# Altium footprint library Diodes_rus.PcbLib: 41 footprints (part 1 of 3)
Each footprint in its own frame and in the unit in brackets; x right, y up, seen from the top. Pads: shape width x height; smd on the part's side, far side on the other; paste and mask are expansions set on the pad; w line width, h text height; cw(c..) or ccw(c..) is an arc to the next point about the centre after c.
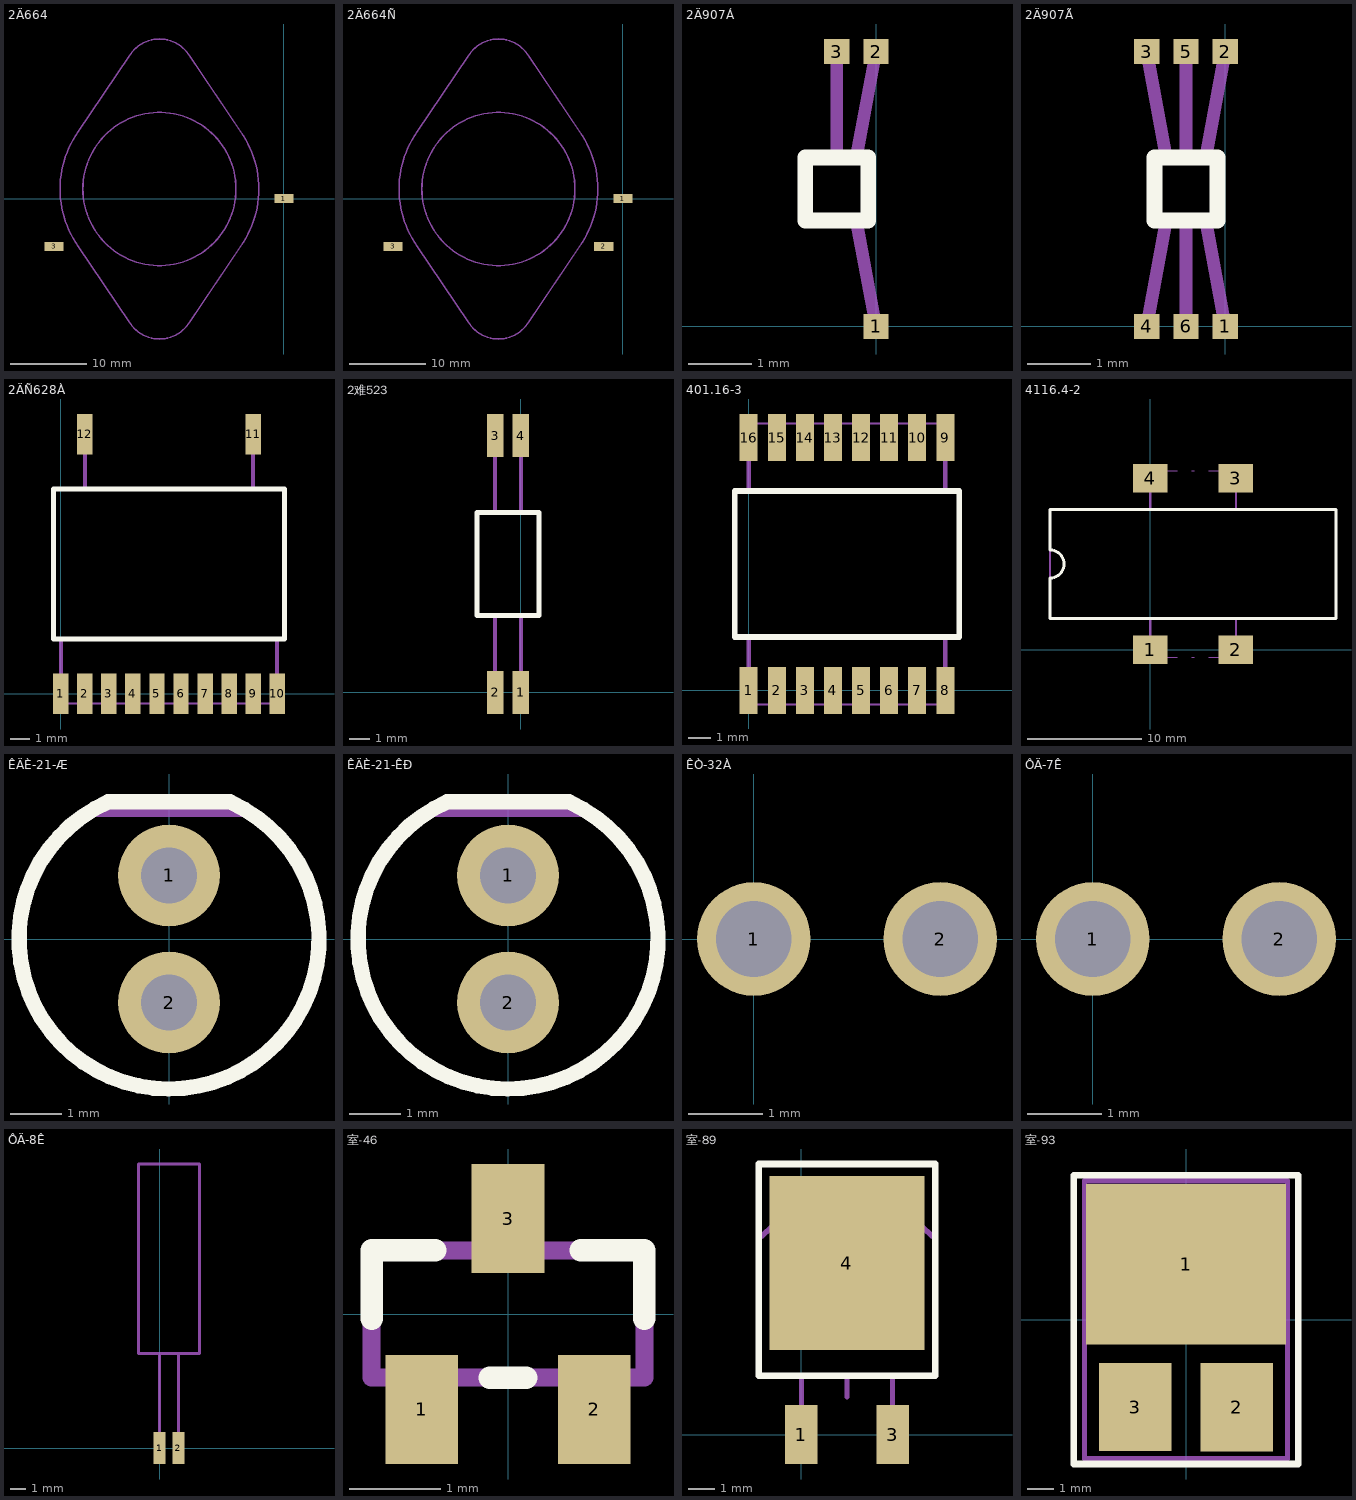
[diagram p0: the footprints below, top view; thin cyan lines are the x and y axes]

## 2Ä664 [mm]
height 19
pads (2):
  rect 2.5x1.2 smd: 1(0,0) 3(-30,-6.25)
Mechanical 1:
  circle w0.2: c-16.25,1.25 r10
  lines w0.2: -26.85,-6.25 cw(c-16.25,1.25) -26.85,8.75 -20.2,18.6 cw(c-16.25,16.25) -12.3,18.6 -5.65,8.75 cw(c-16.25,1.25) -5.65,-6.25 -12.3,-16.1 cw(c-16.25,-13.75) -20.2,-16.1 -26.85,-6.25
  text ".Designator" at -18.18,1.7 h1.5
  text "1" at -0.728,1.243 h1.5
  text "3" at -30.728,-5.007 h1.5

## 2Ä664Ñ [mm]
height 13
pads (3):
  rect 2.5x1.2 smd: 1(0,0) 2(-2.5,-6.25) 3(-30,-6.25)
Mechanical 1:
  circle w0.2: c-16.25,1.25 r10
  lines w0.2: -26.85,-6.25 cw(c-16.25,1.25) -26.85,8.75 -20.2,18.6 cw(c-16.25,16.25) -12.3,18.6 -5.65,8.75 cw(c-16.25,1.25) -5.65,-6.25 -12.3,-16.1 cw(c-16.25,-13.75) -20.2,-16.1 -26.85,-6.25
  text ".Designator" at -18.23,2.3 h1.5
  text "2" at -3.228,-5.007 h1.5
  text "3" at -30.728,-5.007 h1.5
  text "1" at -0.728,1.243 h1.5

## 2Ä907Á [mm]
height 0.7
pads (3):
  rect 0.4x0.4 smd: 1(0,0) 2(0,4.375) 3(-0.625,4.375)
Top Overlay:
  lines w0.25: -1.125,1.687 -1.125,2.688 -0.125,2.688 -0.125,1.687 -1.125,1.687
Mechanical 1:
  lines w0.2: -0.625,2.688 -0.625,4.375 ; -0.312,1.687 0,0 ; -0.312,2.688 0,4.375 ; -1.125,1.687 -1.125,2.688 -0.125,2.688 -0.125,1.687 -1.125,1.687
  text ".Designator" at 1.5,0.27 h1.5

## 2Ä907Ã [mm]
height 0.7
pads (6):
  rect 0.4x0.4 smd: 1(0,0) 2(0,4.375) 3(-1.25,4.375) 4(-1.25,0) 5(-0.625,4.375) 6(-0.625,0)
Top Overlay:
  lines w0.25: -1.125,1.687 -0.125,1.687 -0.125,2.688 -1.125,2.688 -1.125,1.687
Mechanical 1:
  lines w0.2: -1.25,0 -0.937,1.687 ; -1.25,4.375 -0.937,2.688 ; -0.625,0 -0.625,1.687 ; -0.625,2.688 -0.625,4.375 ; -0.312,1.687 0,0 ; -0.312,2.688 0,4.375 ; -1.125,1.687 -1.125,2.688 -0.125,2.688 -0.125,1.687 -1.125,1.687
  text ".Designator" at 1.5,-0.28 h1.5

## 2ÄÑ628À [mm]
height 2.5
pads (12):
  rect 0.8x2.1 smd: 1(0,0) 2(1.25,0) 3(2.5,0) 4(3.75,0) 5(5,0) 6(6.25,0) 7(7.5,0) 8(8.75,0) 9(10,0) 10(11.25,0) 11(10,13.5) 12(1.25,13.5)
Top Overlay:
  lines w0.25: -0.375,2.85 -0.375,10.65 11.625,10.65 11.625,2.85 -0.375,2.85
Mechanical 1:
  lines w0.1: 0,-0.5 4.75,-0.5 ; 5.375,-0.5 5.875,-0.5 ; 6.5,-0.5 11.25,-0.5
  lines w0.2: 0,-0.5 0,2.85 ; 1.25,10.65 1.25,14 ; 10,10.65 10,14 ; 11.25,-0.5 11.25,2.85 ; -0.375,2.85 -0.375,10.65 11.625,10.65 11.625,2.85 -0.375,2.85
  text ".Comment" at 3.05,5.65 h1.5
  text "1" at 0.45,3.45 h1.5
  text "12" at 0.75,9.2 h1.5
  text ".Designator" at 3.87,7.45 h1.5

## 2难523 [mm]
height 3
pads (4):
  rect 0.8x2.1 smd: 1(0,0) 2(-1.25,0) 3(-1.25,12.5) 4(0,12.5)
Top Overlay:
  lines w0.25: -2.125,3.75 -2.125,8.75 0.875,8.75 0.875,3.75 -2.125,3.75
Mechanical 1:
  lines w0.2: -1.25,-0.35 -1.25,3.75 ; -1.25,8.75 -1.25,12.85 ; 0,-0.35 0,3.75 ; 0,8.75 0,12.85 ; -2.125,3.75 -2.125,8.75 0.875,8.75 0.875,3.75 -2.125,3.75
  text "3" at -1.703,7.193 h1.5
  text "2" at -1.703,4.193 h1.5
  text "4" at -0.203,7.193 h1.5
  text "1" at 0.047,4.193 h1.5
  text ".Designator" at 2.4,3.07 h1.5

## 401.16-3 [mm]
height 2.5
pads (16):
  rect 0.8x2.1 smd: 1(0,0) 2(1.25,0) 3(2.5,0) 4(3.75,0) 5(5,0) 6(6.25,0) 7(7.5,0) 8(8.75,0) 9(8.75,11.25) 10(7.5,11.25) 11(6.25,11.25) 12(5,11.25) 13(3.75,11.25) 14(2.5,11.25) 15(1.25,11.25) 16(0,11.25)
Top Overlay:
  lines w0.25: -0.625,2.375 9.375,2.375 9.375,8.875 -0.625,8.875 -0.625,2.375
Mechanical 1:
  lines w0.1: 0,-0.625 3.75,-0.625 ; 0,11.875 3.75,11.875 ; 4.125,-0.625 4.625,-0.625 ; 4.125,11.875 4.625,11.875 ; 5,-0.625 8.75,-0.625 ; 5,11.875 8.75,11.875
  lines w0.2: 0,-0.625 0,2.375 ; 0,8.875 0,11.875 ; 8.75,-0.625 8.75,2.375 ; 8.75,8.875 8.75,11.875 ; -0.625,2.375 9.375,2.375 9.375,8.875 -0.625,8.875 -0.625,2.375
  text "16" at -0.25,7.45 h1.5
  text "1" at -0.15,2.95 h1.5
  text ".Comment" at 1.75,4.4 h1.5
  text ".Designator" at 2.57,6.2 h1.5

## 4116.4-2 [mm]
height 3.35
pads (4):
  rect 3x2.5 smd: 1(0,0) 2(7.5,0) 3(7.5,15) 4(0,15)
Top Overlay:
  lines w0.25: -8.75,2.75 16.25,2.75 16.25,12.25 -8.75,12.25 -8.75,8.725 cw(c-8.75,7.5) -8.75,6.275 -8.75,2.75
Mechanical 1:
  lines w0.1: 0,-0.65 2.375,-0.65 ; 0,15.65 2.375,15.65 ; 3.625,-0.65 3.875,-0.65 ; 3.625,15.65 3.875,15.65 ; 5.125,-0.65 7.5,-0.65 ; 5.125,15.65 7.5,15.65
  lines w0.2: 0,-0.65 0,2.775 ; 0,12.225 0,15.65 ; 7.5,-0.65 7.5,2.775 ; 7.5,12.225 7.5,15.65 ; -8.75,2.75 16.25,2.75 16.25,12.25 -8.75,12.25 -8.75,2.75
  text ".Designator" at 1.3,7.9 h1.5
  text ".Comment" at -0.6,5.8 h1.5
  text "11" at 6.052,9.821 h1.5
  text "8" at 6.776,3.571 h1.5
  text "17" at -1.448,9.821 h1.5
  text "2" at -0.724,3.571 h1.5
3D body: height 3.1, standoff 0, extent -8.8,-0.7 16.2,15.6

## ÊÄÈ-21-Æ [mm]
height 11
pads (2):
  round 2 hole 1.1 unplated: 1(0,1.25) 2(0,-1.25)
Top Overlay:
  lines w0.3: -1.2,2.7 1.2,2.7 ; -1.198,2.696 ccw(c0,0) 1.217,2.687
Mechanical 1:
  lines w0.2: -1.608,2.473 ccw(c0,0) 1.608,2.473 ; -1.608,2.5 1.608,2.5
  text "+" at -0.4,-1.7 h1.5
  text ".Designator" at -3.2,3.55 h1.5
3D body: height 11.2, standoff -3, extent -2.949,-2.95 2.949,2.5

## ÊÄÈ-21-ÊÐ [mm]
height 11
pads (2):
  round 2 hole 1.1 unplated: 1(0,1.25) 2(0,-1.25)
Top Overlay:
  lines w0.3: -1.2,2.7 1.2,2.7 ; -1.198,2.696 ccw(c0,0) 1.217,2.687
Mechanical 1:
  lines w0.2: -1.608,2.473 ccw(c0,0) 1.608,2.473 ; -1.608,2.5 1.608,2.5
  text "+" at -0.4,-1.7 h1.5
  text ".Designator" at -3.2,3.55 h1.5
3D body: height 11.2, standoff -3, extent -2.949,-2.95 2.949,2.5

## ÊÒ-32À [mil]
pads (2):
  round 60 hole 40: 1(0,0) 2(98.43,0)
Mechanical 1:
  text "+" at -70.87,-39.37 h59.06
  text "-" at 145.16,-39.64 h59.06
  text ".Designator" at -13.78,47.24 h59.06

## ÔÄ-7Ê [mil]
pads (2):
  round 60 hole 40: 1(0,0) 2(98.43,0)
Mechanical 1:
  text ".Designator" at -1.97,49.21 h59.06
  text "+" at -70.87,-43.31 h59.06
  text "-" at 133.86,-41.34 h59.06

## ÔÄ-8Ê [mm]
height 4
pads (2):
  rect 0.8x2.1 smd: 1(0,0) 2(1.25,0)
Mechanical 1:
  lines w0.2: 0,-0.625 0,6.25 ; 1.25,-0.625 1.25,6.25 ; -1.375,6.25 -1.375,18.75 2.625,18.75 2.625,6.25 -1.375,6.25
  text ".Designator" at -0.1,9.3 h1.5
  text ".Comment" at 2.1,8.1 h1.5
  text "+" at 1.95,-0.55 h1.5

## 室-46 [mm]
height 1.1
pads (3):
  rect 0.8x1.2 smd: 1(-0.95,-1.05) 2(0.95,-1.05) 3(0,1.05)
Top Overlay:
  lines w0.25: -1.5,-0.05 -1.5,0.7 -0.8,0.7 ; -0.2,-0.7 0.2,-0.7 ; 0.8,0.7 1.5,0.7 1.5,-0.05
Mechanical 1:
  lines w0.2: -0.97,-1.3 -0.97,-0.7 ; 0,0.7 0,1.3 ; 0.93,-1.3 0.93,-0.7 ; -1.5,-0.7 -1.5,0.7 1.5,0.7 1.5,-0.7 -1.5,-0.7
  text "2" at 1.7,-1.5 h1.5
  text "1" at -2.1,-1.6 h1.5
  text "3" at -1.2,1 h1.5
  text ".Designator" at -1.58,-2.45 h1.5
3D body: height 1.1, standoff 0, extent -1.5,-1.25 1.5,1.25

## 室-89 [mm]
height 4.7
pads (3):
  rect 1.2x2.2 smd: 1(0,0) 3(3.42,0)
  rect 5.8x6.5 smd: 4(1.71,6.4)
Top Overlay:
  lines w0.25: -1.59,2.2 -1.59,10.1 5.01,10.1 5.01,2.2 -1.59,2.2
Mechanical 1:
  lines w0.2: 0.01,-0.5 0.01,2.2 ; 1.71,1.4 1.71,2.2 ; 3.41,-0.5 3.41,2.2 ; -0.49,8.3 -0.49,8.9 0.21,9.4 3.21,9.4 3.91,8.9 3.91,8.3 ; -0.49,8.3 -1.59,7.3 -1.59,2.2 5.01,2.2 5.01,7.3 3.91,8.3 ; -0.49,8.3 3.91,8.3
  text ".Designator" at 0.4,5.5 h1.5
  text ".Comment" at -0.8,3.3 h1.5
  text "1" at -1.3,-0.35 h1.5
  text "2" at 1.45,-0.25 h1.5
  text "4" at 1.4,6.85 h1.5
  text "3" at 4.4,-0.35 h1.5

## 室-93 [mm]
height 3.06
pads (3):
  rect 7.5x6 smd: 1(0,2.075)
  rect 2.7x3.3 smd: 2(1.9,-3.275) 3(-1.9,-3.27)
Top Overlay:
  lines w0.25: -4.2,-5.4 -4.2,5.4 4.2,5.4 4.2,-5.4 4,-5.4 -4,-5.4 -4.2,-5.4
Mechanical 1:
  lines w0.2: -3.8,-5.2 3.8,-5.2 3.8,5.2 -3.8,5.2 -3.8,-5.2
  text "+" at 1.55,-4.775 h1.5
  text "1" at 0,1.625 h1.5
  text "3" at -2.15,-3.725 h1.5
  text "2" at 1.6,-3.725 h1.5
  text "-" at 0,3.375 h1.5
  text ".Designator" at -2.07,-0.55 h1.5
3D body: height 3.06, standoff 0, extent -3.8,-5.1 3.8,5.1